# EAGLE library part LM3405 (library LARS_409_MC3)
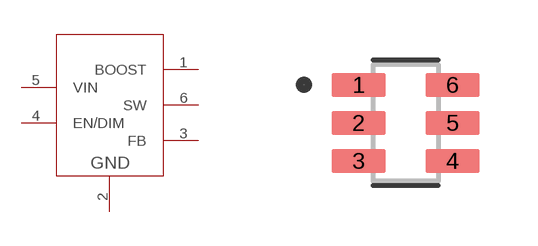
[diagram p19: symbol with the pads of SOT23-6; footprint SOT23-6]

Designator prefix -

## LM3405  [SOT23-6]
1  BOOST
2  GND
3  FB
4  EN/DIM
5  VIN
6  SW

## Footprint SOT23-6 (pad centres in mm)
6-SOT23, 0.95 mm pitch, 2.40 mm span, 2.90 X 1.60 X 1.45 mm body 6-pin SOT23 package with 0.95 mm pitch, 2.40 mm span with body size 2.90 X 1.60 X 1.45 mm
smd 1.36 x 0.6: 1 -1.175,0.95; 2 -1.175,0; 3 -1.175,-0.95; 4 1.175,-0.95; 5 1.175,0; 6 1.175,0.95